# Altium footprint library memo.PcbLib: 50 footprints (part 1 of 4)
Each footprint in its own frame and in the unit in brackets; x right, y up, seen from the top. Pads: shape width x height; smd on the part's side, far side on the other; paste and mask are expansions set on the pad; w line width, h text height; cw(c..) or ccw(c..) is an arc to the next point about the centre after c.
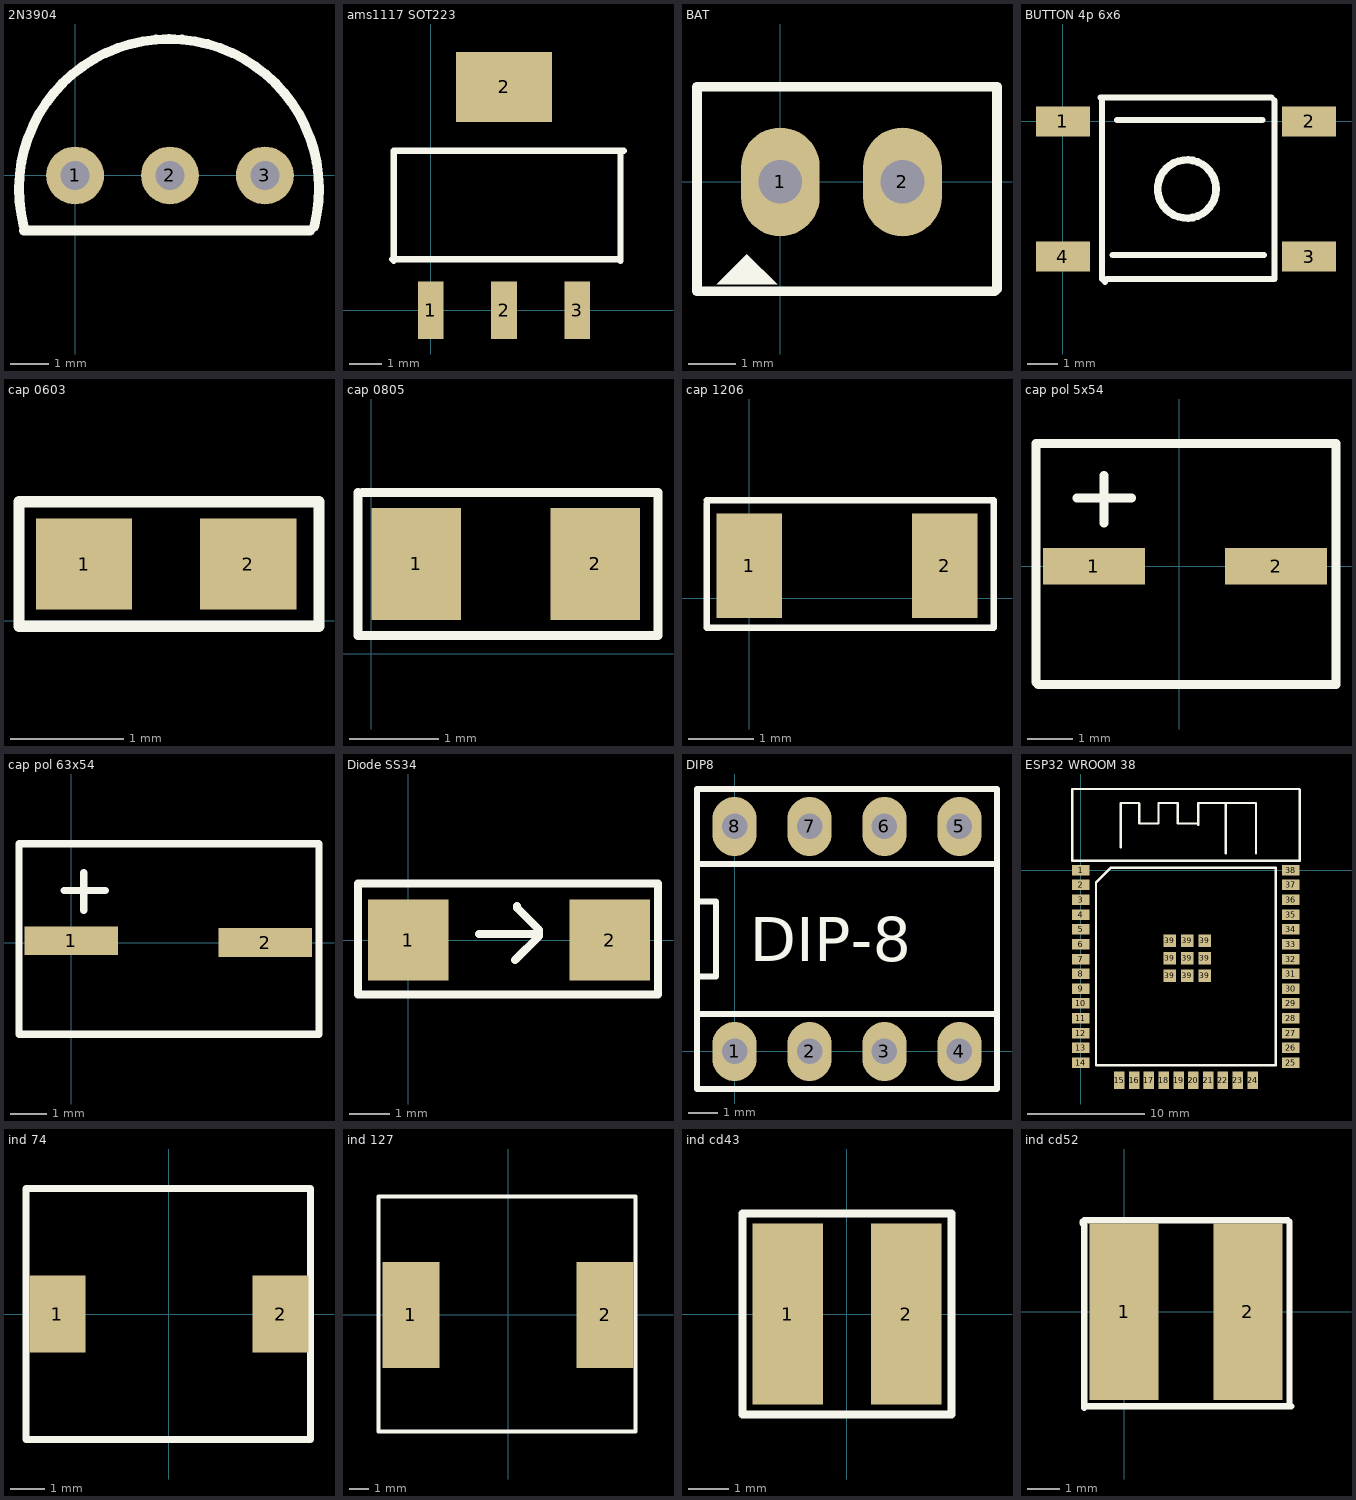
[diagram p0: the footprints below, top view; thin cyan lines are the x and y axes]

## 2N3904 [mil]
pads (3):
  round 60 hole 30: 1(0,0) 2(98.43,0) 3(196.85,0)
Top Overlay:
  lines w10: -53.22,-53.17 cw(c97.41,-14.03) 248.03,-53.15 ; -53.15,-57.09 244.09,-57.09

## ams1117 SOT223 [mm]
pads (4):
  rect 0.8x1.8 smd: 1(0,0) 2(2.3,0) 3(4.6,0)
  rect 3x2.2 smd: 2(2.3,7)
Top Overlay:
  lines w0.2: -1.2,1.6 5.95,1.6 ; -1.15,1.55 -1.15,5 6.05,5 ; 5.95,1.55 5.95,5
3D body: height 1.5, standoff 0, extent -0.95,0.1 5.55,7.1

## BAT [mil]
pads (2):
  oval 65x90 hole 36: 1(0,0) 2(101,0)
Top Overlay:
  region: -27.56,-59.65 -52.56,-84.65 -2.56,-84.65
  lines w7.87: -68.9,-90.55 177.17,-90.55 179.13,-88.58 179.13,78.74 -68.9,78.74 -68.9,-90.55

## BUTTON 4p 6x6 [mm]
pads (4):
  rect 1.8x1 smd: 1(0,0) 2(8.2,0) 3(8.2,-4.5) 4(0,-4.5)
Top Overlay:
  circle w0.254: c4.129,-2.25 r0.971
  lines w0.2: 1.25,0.8 6.95,0.8 7.05,0.7 7.05,-5.25 1.45,-5.25 1.4,-5.3 ; 1.3,0.7 1.3,-5.25 1.4,-5.35 ; 1.65,-4.45 6.7,-4.45 ; 1.8,0.05 6.65,0.05

## cap 0603 [mm]
pads (2):
  rect 0.85x0.8 smd: 1(0.775,0.5) 2(2.225,0.5)
Top Overlay:
  lines w0.1: 0.2,-0.05 2.85,-0.05 2.85,1.05 0.2,1.05 0.2,-0.05
3D body: height 0.3, standoff 0, extent 0.7,0.1 2.3,0.9

## cap 0805 [mm]
pads (2):
  rect 1x1.25 smd: 1(0.5,1) 2(2.5,1)
Top Overlay:
  lines w0.1: -0.15,1.8 -0.15,0.2 3.2,0.2 3.2,1.8 -0.1,1.8
3D body: height 0.78, standoff 0, extent 0.5,0.4 2.5,1.65

## cap 1206 [mm]
pads (2):
  rect 1x1.6 smd: 1(0,0.5) 2(3,0.5)
Top Overlay:
  lines w0.1: -0.65,1.45 -0.65,-0.4 -0.65,-0.45 2.5,-0.45 3.75,-0.45 3.75,1.5 -0.65,1.5
3D body: height 1, standoff 0, extent -0.1,-0.3 3.1,1.3

## cap pol 5x54 [mm]
pads (2):
  rect 2.25x0.8 smd: 1(-1.875,0) 2(2.13,0)
Top Overlay:
  lines w0.2: -2.25,1.5 -1.05,1.5 ; -1.65,0.95 -1.65,2 ; 3.05,-2.6 3.4,-2.6 ; 3.05,2.7 3.45,2.7 3.45,-2.6 ; 3.1,-2.6 -3.1,-2.6 -3.15,-2.55 -3.15,0 -3.15,2.7 3.1,2.7

## cap pol 63x54 [mm]
pads (2):
  rect 2.6x0.8 smd: 1(0,0.05) 2(5.4,0)
Top Overlay:
  lines w0.2: -0.2,1.45 0.95,1.45 ; 0.35,0.9 0.35,1.95 ; 5.25,-2.55 6.9,-2.55 6.9,2.75 -1.45,2.75 -1.45,-2.55 5.3,-2.55
3D body: height 7.88, standoff 0.08, extent -0.85,-3.25 6.15,3.35

## Diode SS34 [mm]
pads (2):
  rect 2x2 smd: 1(0,0) 2(5,0)
Top Overlay:
  lines w0.2: 1.75,0.15 3.2,0.15 ; 2.65,-0.5 3.25,0.1 3.25,0.25 2.7,0.8 2.7,0.85 ; -1.25,-1.35 -1.25,1.4 -1.05,1.4 6.2,1.4 6.2,-1.35 -1.25,-1.35
3D body: height 2.41, standoff 0.01, extent -0.05,-1.3 5.05,1.2

## DIP8 [mm]
pads (8):
  oval 1.5x2 hole 0.864: 1(0,0) 2(2.54,0) 3(5.08,0) 4(7.62,0) 5(7.62,7.62) 6(5.08,7.62) 7(2.54,7.62) 8(0,7.62)
Top Overlay:
  lines w0.203: -1.27,1.27 8.89,1.27 ; -1.27,1.27 -1.27,6.35 ; -1.27,1.27 8.89,1.27 ; -1.27,1.27 -1.27,6.35 ; -1.27,1.27 -1.27,-1.27 8.89,-1.27 8.89,6.35 ; -1.27,1.27 -1.27,2.54 ; -1.27,2.54 -0.635,2.54 ; -1.27,2.54 -0.635,2.54 ; -1.27,2.54 -1.27,5.08 ; -1.27,5.08 -0.635,5.08 ; -1.27,5.08 -0.635,5.08 ; -1.27,5.08 -1.27,8.89 8.89,8.89 8.89,6.35 ; -1.27,6.35 8.89,6.35 ; -1.27,6.35 8.89,6.35 ; -0.635,2.54 -0.635,5.08 ; -0.635,2.54 -0.635,5.08 ; 8.89,1.27 8.89,6.35 ; 8.89,1.27 8.89,6.35
  text "DIP-8" at 0.508,3.048 h1.5
3D body: height 4.5, standoff -3.5, extent -1.59,-0.07 9.21,7.69

## ESP32 WROOM 38 [mm]
pads (47):
  rect 1.5x0.9 smd: 1(0,0) 2(0,-1.27) 3(0,-2.54) 4(0,-3.81) 5(0,-5.08) 6(0,-6.35) 7(0,-7.62) 8(0,-8.89) 9(0,-10.16) 10(0,-11.43) 11(0,-12.7) 12(0,-13.97) 13(0,-15.24) 14(0,-16.51) 25(17.99,-16.51) 26(17.99,-15.24) 27(17.99,-13.97) 28(17.99,-12.7) 29(17.99,-11.43) 30(17.99,-10.16) 31(17.99,-8.89) 32(17.99,-7.62) 33(17.99,-6.35) 34(17.99,-5.08) 35(17.99,-3.81) 36(17.99,-2.54) 37(17.99,-1.27) 38(17.99,0)
  rect 0.9x1.5 smd: 15(3.28,-18.01) 16(4.55,-18.01) 17(5.82,-18.01) 18(7.09,-18.01) 19(8.36,-18.01) 20(9.63,-18.01) 21(10.9,-18.01) 22(12.17,-18.01) 23(13.44,-18.01) 24(14.71,-18.01)
  rect 1.05x1.05 smd: 39(7.6,-9.05) 39(7.6,-7.55) 39(7.6,-6.05) 39(9.1,-9.05) 39(9.1,-7.55) 39(9.1,-6.05) 39(10.6,-9.05) 39(10.6,-7.55) 39(10.6,-6.05)
Top Overlay:
  lines w0.2: 3.4,1.95 3.4,5.75 4.95,5.75 5,5.7 5,4 6.65,4 6.65,5.75 8.3,5.75 8.3,4 9.95,4 10.05,3.9 10.05,5.75 15,5.75 15,1.45 ; 12.4,1.45 12.4,5.7 ; 15.5,6.95 17.85,6.95 18.7,6.95 ; 18.7,6.95 18.75,6.9 18.75,0.8 -0.75,0.8 -0.75,6.95 18.7,6.95 ; 1.285,-16.725 16.705,-16.725 16.705,0.215 2.57,0.215 1.285,-1.07 1.285,-16.725
3D body: height 4.35, standoff 0.45, extent -0.1,-18 18,7.55

## ind 74 [mm]
pads (2):
  rect 1.6x2.2 smd: 1(-3.2,0) 2(3.2,0)
Top Overlay:
  lines w0.2: -3.75,-3.6 -4.1,-3.6 -4.1,0 -4.1,3.6 4.05,3.6 4.05,-3.6 3.55,-3.6 -3.7,-3.6
3D body: height 2.9, standoff -0.1, extent -3.435,-3.22 3.435,3.25

## ind 127 [mm]
pads (2):
  rect 2.9x5.4 smd: 1(-4.95,0) 2(4.95,0)
Top Overlay:
  lines w0.2: -6.6,0 -6.6,-5.95 6.5,-5.95 6.5,6.05 -6.6,6.05 -6.6,0.05

## ind cd43 [mm]
pads (2):
  rect 1.75x4.5 smd: 1(-1.475,0) 2(1.475,0)
Top Overlay:
  lines w0.2: -2.6,-2.5 2.6,-2.5 2.6,2.5 -2.6,2.5 -2.6,0 -2.6,-2.5
3D body: height 3.19, standoff 0, extent -1.95,-2.217 2.05,2.217

## ind cd52 [mm]
pads (2):
  rect 2.15x5.5 smd: 1(0,0) 2(3.85,0)
Top Overlay:
  lines w0.2: -1.3,2.8 -1.3,2.75 -1.25,2.7 -1.25,-3 ; -1.25,2.85 5.1,2.85 5.15,2.8 5.15,-2.9 ; -1.2,-2.95 5.2,-2.95
3D body: height 3.19, standoff 0, extent -0.15,-2.283 3.85,2.15